# EAGLE library part 629105150521 (library 629105150521)
USB - micro B USB 2.0 Receptacle Connector 5 Position Surface Mount, Right Angle; Through Hole Source: Datasheet <https://www.we-online.com/components/products/datasheet/629105150521.pdf>
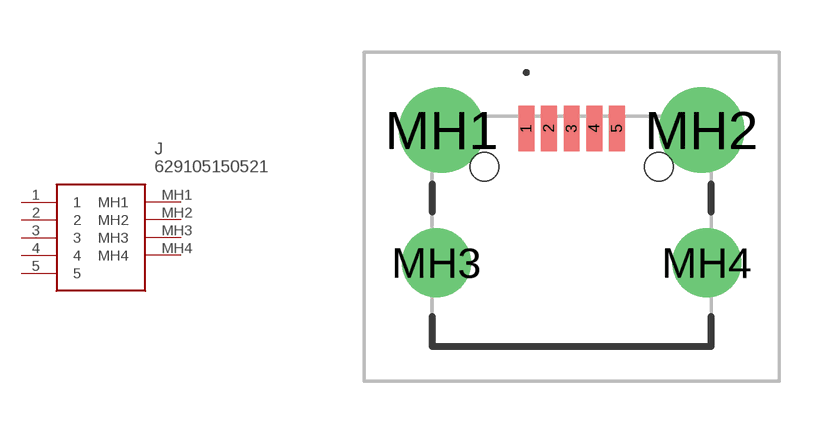
[diagram p0: symbol with the pads of 629105150521; footprint 629105150521]

Designator prefix J

## 629105150521 (Description: USB - micro B USB 2.0 Receptacle Connector 5 Position Surface Mount, Right Angle; Through Hole; Height: 2.86mm; Manufacturer_Name: Wurth Elektronik; Manufacturer_Part_Number: 629105150521)  [629105150521]
1  1
2  2
3  3
4  4
5  5
MH1  MH1
MH2  MH2
MH3  MH3
MH4  MH4

## Footprint 629105150521 (pad centres in mm)
629105150521-7
smd 0.45 x 1.3: 1 -1.3,2.95; 2 -0.65,2.95; 3 0,2.95; 4 0.65,2.95; 5 1.3,2.95
drill 1.64 pad 2.46: MH1 -3.725,2.9; MH2 3.725,2.9
drill 1.32 pad 1.98: MH3 -3.875,-0.9; MH4 3.875,-0.9
hole 0.8 at -2.5,1.85
hole 0.8 at 2.5,1.85